# EAGLE library part PCA9685_16-CH_12-BIT_PWM-DRIVER (library MrSwirlyEyes)
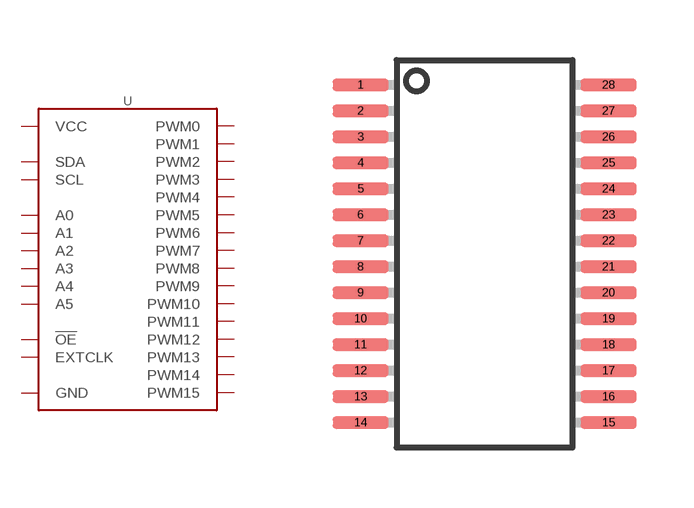
[diagram p2: symbol with the pads of TSSOP-28; footprint TSSOP-28]

Designator prefix U

## PCA9685_16-CH_12-BIT_PWM-DRIVER (CREATOR: MrSwirlyEyes; DATASHEET: http://www.nxp.com/docs/en/data-sheet/PCA9685.pdf; DIST: Digikey; DISTLINK: https://www.digikey.com/products/en?keywords=568-11925-1-ND; DISTPN: 568-11925-1-ND; MFR: NXP USA Inc.; MPN: PCA9685PW,118; VALUE: PCA9685)  [TSSOP-28]
1  A0  pas
2  A1  pas
3  A2  pas
4  A3  pas
5  A4  pas
6  PWM0  pas
7  PWM1  pas
8  PWM2  pas
9  PWM3  pas
10  PWM4  pas
11  PWM5  pas
12  PWM6  pas
13  PWM7  pas
14  GND  pas
15  PWM8  pas
16  PWM9  pas
17  PWM10  pas
18  PWM11  pas
19  PWM12  pas
20  PWM13  pas
21  PWM14  pas
22  PWM15  pas
23  !OE  pas
24  A5  pas
25  EXTCLK  pas
26  SCL  pas
27  SDA  pas
28  VCC  pas

## Footprint TSSOP-28 (pad centres in mm)
smd 1.4 x 0.3: 1 -3.1,4.225; 2 -3.1,3.575; 3 -3.1,2.925; 4 -3.1,2.275; 5 -3.1,1.625; 6 -3.1,0.975; 7 -3.1,0.325; 8 -3.1,-0.325; 9 -3.1,-0.975; 10 -3.1,-1.625; 11 -3.1,-2.275; 12 -3.1,-2.925; 13 -3.1,-3.575; 14 -3.1,-4.225; 15 3.1,-4.225; 16 3.1,-3.575; 17 3.1,-2.925; 18 3.1,-2.275; 19 3.1,-1.625; 20 3.1,-0.975; 21 3.1,-0.325; 22 3.1,0.325; 23 3.1,0.975; 24 3.1,1.625; 25 3.1,2.275; 26 3.1,2.925; 27 3.1,3.575; 28 3.1,4.225